# Altium schematic symbol library self_schlib.SchLib: 44 symbols
Pins are listed as number, name and electrical type; pins without a type are passive.

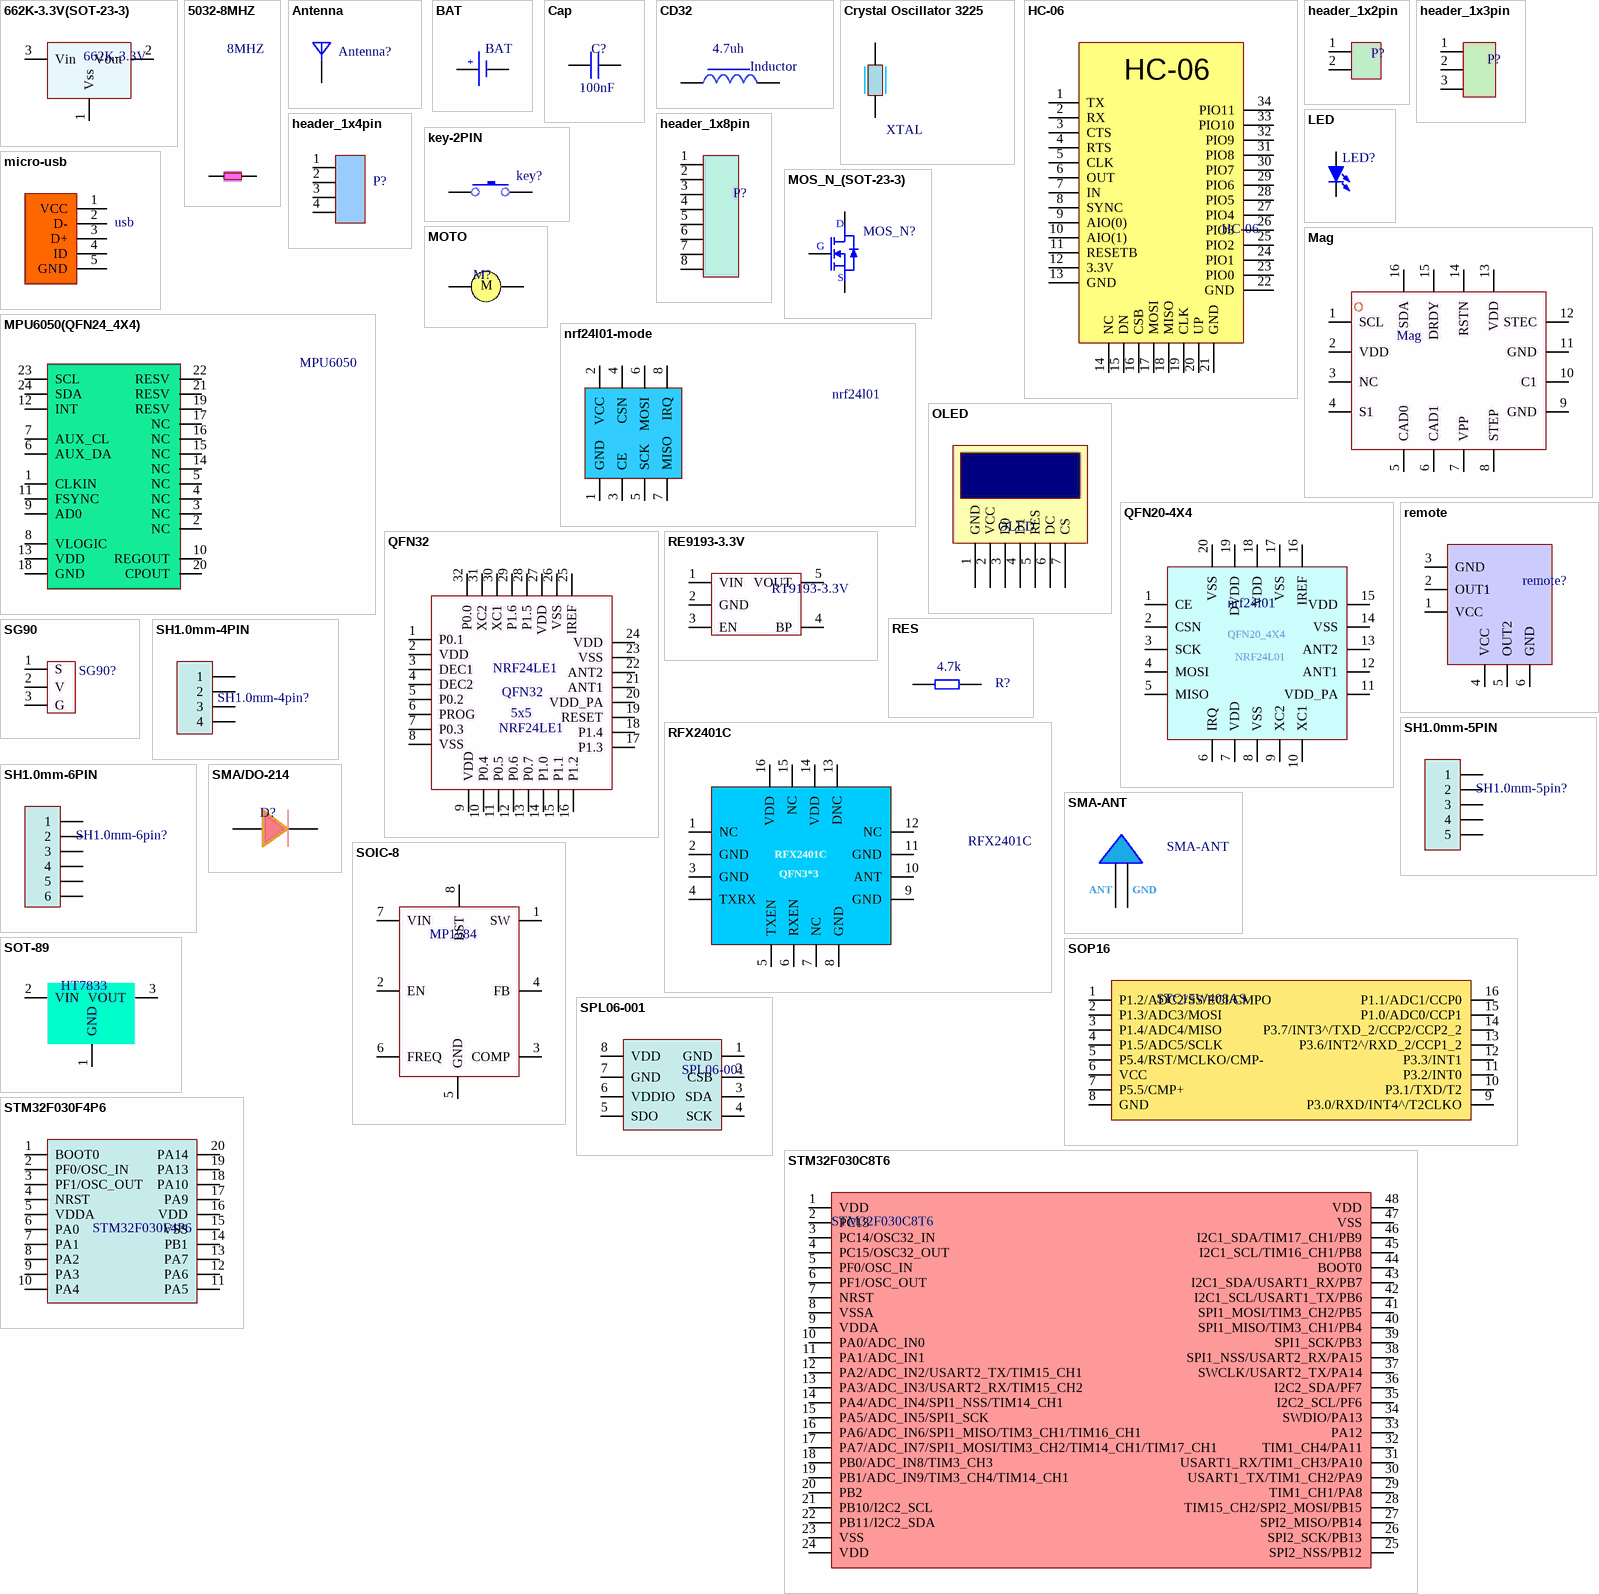
[diagram p0: symbols 662K-3.3V(SOT-23-3) to STM32F030F4P6]

## 662K-3.3V(SOT-23-3)
designator 662K-3.3V  (value not drawn)
footprint SOT-23-3
pins: 1 Vss, 2 Vout, 3 Vin

## 5032-8MHZ
designator 8MHZ  (value not drawn)
footprint 5032-8MHZ
pins: 1, 3

## Antenna
designator Antenna?  (value not drawn)
footprint Antenna
footprint ANT2
pins: 1

## BAT
designator BAT  (value not drawn)
footprint BAT
pins: 1 +, 2 -

## Cap
designator C?  (value not drawn)
footprint Cap
footprint CAP-0805
footprint CAP-3216
pins: 1, 2
text: 100nF

## CD32
designator Inductor  (value not drawn)
footprint CD32
pins: 1, 2
text: 4.7uh

## Crystal Oscillator 3225
designator XTAL  (value not drawn)
footprint Crystal Oscillator 3225
pins: 1, 3

## HC-06
designator HC-06  (value not drawn)
footprint HC-06
pins: 1 TX (power), 2 RX (power), 3 CTS (power), 4 RTS (power), 5 CLK (power), 6 OUT (hiz), 7 IN (hiz), 8 SYNC (hiz), 9 AIO(0) (hiz), 10 AIO(1) (hiz), 11 RESETB (hiz), 12 3.3V (hiz), 13 GND (hiz), 14 NC (hiz), 15 DN (hiz), 16 CSB (hiz), 17 MOSI (hiz), 18 MISO (hiz), 19 CLK (hiz), 20 UP (hiz), 21 GND (hiz), 22 GND (hiz), 23 PIO0 (hiz), 24 PIO1 (hiz), 25 PIO2 (hiz), 26 PIO3 (hiz), 27 PIO4 (hiz), 28 PIO5 (hiz), 29 PIO6 (hiz), 30 PIO7 (hiz), 31 PIO8 (hiz), 32 PIO9 (hiz), 33 PIO10 (hiz), 34 PIO11 (hiz)

## header_1x2pin
designator P?  (value not drawn)
footprint straight-1x2pin
footprint straight-1x2pin - duplicate
footprint winding_1x2pin
footprint straight-1x2pin - duplicate1
pins: 1, 2

## header_1x3pin
designator P?, comment header_1x2pin  (value not drawn)
footprint straight-1x3pin - duplicate
footprint straight-1x3pin - duplicate1
footprint winding_1x3pin
footprint straight-1x3pin
pins: 1, 2, 3

## header_1x4pin
designator P?  (value not drawn)
footprint straight-1x4pin
footprint straight-1x4pin - duplicate
pins: 1, 2, 3, 4

## header_1x8pin
designator P?, comment header_1x2pin  (value not drawn)
footprint straight-1x8pin
footprint straight-1x8pin - duplicate
footprint winding_1x8pin
pins: 1, 2, 3, 4, 5, 6, 7, 8

## key-2PIN
designator key?  (value not drawn)
footprint KEY-2PIN
pins: 1, 2

## LED
designator LED?  (value not drawn)
footprint LED-0603
pins: 1, 2

## Mag
designator Mag  (value not drawn)
footprint Mag (磁力计)
pins: 1 SCL, 2 VDD, 3 NC, 4 S1, 5 CAD0, 6 CAD1, 7 VPP, 8 STEP, 9 GND, 10 C1, 11 GND, 12 STEC, 13 VDD, 14 RSTN, 15 DRDY, 16 SDA

## micro-usb
designator usb  (value not drawn)
footprint USB-MICRO-1
pins: 1 VCC, 2 D-, 3 D+, 4 ID, 5 GND

## MOS_N_(SOT-23-3)
designator MOS_N?, comment MOS_N  (value not drawn)
footprint SOT-23-3
pins: 1 G, 2 S, 3 D

## MOTO
designator M?  (value not drawn)
footprint MOTO (直流电机)
pins: 1 (hiz), 2 (hiz)
text: M

## MPU6050(QFN24_4X4)
designator MPU6050, comment MPU6050  (value not drawn)
footprint QFN24_4X4
pins: 1 CLKIN, 2 NC, 3 NC, 4 NC, 5 NC, 6 AUX_DA, 7 AUX_CL, 8 VLOGIC, 9 AD0, 10 REGOUT, 11 FSYNC, 12 INT, 13 VDD, 14 NC, 15 NC, 16 NC, 17 NC, 18 GND, 19 RESV, 20 CPOUT, 21 RESV, 22 RESV, 23 SCL, 24 SDA

## nrf24l01-mode
designator nrf24l01  (value not drawn)
footprint NRF24L01-mode
pins: 1 GND, 2 VCC, 3 CE, 4 CSN, 5 SCK, 6 MOSI, 7 MISO, 8 IRQ

## OLED
designator OLED  (value not drawn)
footprint OLED-0.96-PIN7
pins: 1 GND (hiz), 2 VCC (hiz), 3 D0 (hiz), 4 D1 (hiz), 5 RES (hiz), 6 DC (hiz), 7 CS (hiz)

## QFN20-4X4
designator nrf24l01, comment nrf24l01  (value not drawn)
footprint QFN20_4X4
pins: 1 CE, 2 CSN, 3 SCK, 4 MOSI, 5 MISO, 6 IRQ, 7 VDD, 8 VSS, 9 XC2, 10 XC1, 11 VDD_PA, 12 ANT1, 13 ANT2, 14 VSS, 15 VDD, 16 IREF, 17 VSS, 18 VDD, 19 DVDD, 20 VSS
text: QFN20_4X4; NRF24L01

## QFN32
designator NRF24LE1, comment NRF24LE1  (value not drawn)
footprint QFN32_5X5
pins: 1 P0.1, 2 VDD, 3 DEC1, 4 DEC2, 5 P0.2, 6 PROG, 7 P0.3, 8 VSS, 9 VDD, 10 P0.4, 11 P0.5, 12 P0.6, 13 P0.7, 14 P1.0, 15 P1.1, 16 P1.2, 17 P1.3, 18 P1.4, 19 RESET, 20 VDD_PA, 21 ANT1, 22 ANT2, 23 VSS, 24 VDD, 25 IREF, 26 VSS, 27 VDD, 28 P1.5, 29 P1.6, 30 XC1, 31 XC2, 32 P0.0
text: 5x5

## RE9193-3.3V
designator RT9193-3.3V  (value not drawn)
footprint SOT-23-5
pins: 1 VIN, 2 GND, 3 EN, 4 BP, 5 VOUT

## remote
designator remote?  (value not drawn)
footprint remote
pins: 1 VCC, 2 OUT1, 3 GND, 4 VCC, 5 OUT2, 6 GND

## RES
designator R?, comment 4.7K
footprint RES-0603
pins: 1, 2
text: 4.7k

## RFX2401C
designator RFX2401C  (value not drawn)
footprint RFX2401C (QFN3*3)
pins: 1 NC, 2 GND, 3 GND, 4 TXRX, 5 TXEN, 6 RXEN, 7 NC, 8 GND, 9 GND, 10 ANT, 11 GND, 12 NC, 13 DNC, 14 VDD, 15 NC, 16 VDD
text: QFN3*3

## SG90
designator SG90?  (value not drawn)
footprint SG90
pins: 1 S, 2 V, 3 G

## SH1.0mm-4PIN
designator SH1.0mm-4pin?  (value not drawn)
footprint SH1.0mm-4PIN
pins: 1, 2, 3, 4

## SH1.0mm-5PIN
designator SH1.0mm-5pin?  (value not drawn)
footprint SH1.0MM-5PIN
pins: 1, 2, 3, 4, 5

## SH1.0mm-6PIN
designator SH1.0mm-6pin?  (value not drawn)
footprint SH1.0mm-6PIN
pins: 1, 2, 3, 4, 5, 6

## SMA-ANT
designator SMA-ANT  (value not drawn)
footprint SMA-ANT
pins: 0 GND, 1 ANT

## SMA/DO-214
designator D?  (value not drawn)
footprint SMA/DO-214
pins: 1, 2

## SOIC-8
designator MP1584  (value not drawn)
SOIC-8
footprint SOIC-8
pins: 1 SW, 2 EN, 3 COMP, 4 FB, 5 GND, 6 FREQ, 7 VIN, 8 BST

## SOP16
designator STC15W408AS, comment STC15W408AS  (value not drawn)
footprint SOP16
pins: 1 P1.2/ADC2/SS/ECI/CMPO, 2 P1.3/ADC3/MOSI, 3 P1.4/ADC4/MISO, 4 P1.5/ADC5/SCLK, 5 P5.4/RST/MCLKO/CMP-, 6 VCC, 7 P5.5/CMP+, 8 GND, 9 P3.0/RXD/INT4^/T2CLKO, 10 P3.1/TXD/T2, 11 P3.2/INT0, 12 P3.3/INT1, 13 P3.6/INT2^/RXD_2/CCP1_2, 14 P3.7/INT3^/TXD_2/CCP2/CCP2_2, 15 P1.0/ADC0/CCP1, 16 P1.1/ADC1/CCP0

## SOT-89
designator HT7833, comment HT7833  (value not drawn)
footprint SOT-89
pins: 1 GND, 2 VIN, 3 VOUT

## SPL06-001
designator SPL06-001  (value not drawn)
footprint SPL06-001 (气压计)
pins: 1 GND, 2 CSB, 3 SDA, 4 SCK, 5 SDO, 6 VDDIO, 7 GND, 8 VDD

## STM32F030C8T6
designator STM32F030C8T6  (value not drawn)
footprint STM32F030C8T6
pins: 1 VDD, 2 PC13, 3 PC14/OSC32_IN, 4 PC15/OSC32_OUT, 5 PF0/OSC_IN, 6 PF1/OSC_OUT, 7 NRST, 8 VSSA, 9 VDDA, 10 PA0/ADC_IN0, 11 PA1/ADC_IN1, 12 PA2/ADC_IN2/USART2_TX/TIM15_CH1, 13 PA3/ADC_IN3/USART2_RX/TIM15_CH2, 14 PA4/ADC_IN4/SPI1_NSS/TIM14_CH1, 15 PA5/ADC_IN5/SPI1_SCK, 16 PA6/ADC_IN6/SPI1_MISO/TIM3_CH1/TIM16_CH1, 17 PA7/ADC_IN7/SPI1_MOSI/TIM3_CH2/TIM14_CH1/TIM17_CH1, 18 PB0/ADC_IN8/TIM3_CH3, 19 PB1/ADC_IN9/TIM3_CH4/TIM14_CH1, 20 PB2, 21 PB10/I2C2_SCL, 22 PB11/I2C2_SDA, 23 VSS, 24 VDD, 25 SPI2_NSS/PB12, 26 SPI2_SCK/PB13, 27 SPI2_MISO/PB14, 28 TIM15_CH2/SPI2_MOSI/PB15, 29 TIM1_CH1/PA8, 30 USART1_TX/TIM1_CH2/PA9, 31 USART1_RX/TIM1_CH3/PA10, 32 TIM1_CH4/PA11, 33 PA12, 34 SWDIO/PA13, 35 I2C2_SCL/PF6, 36 I2C2_SDA/PF7, 37 SWCLK/USART2_TX/PA14, 38 SPI1_NSS/USART2_RX/PA15, 39 SPI1_SCK/PB3, 40 SPI1_MISO/TIM3_CH1/PB4, 41 SPI1_MOSI/TIM3_CH2/PB5, 42 I2C1_SCL/USART1_TX/PB6, 43 I2C1_SDA/USART1_RX/PB7, 44 BOOT0, 45 I2C1_SCL/TIM16_CH1/PB8, 46 I2C1_SDA/TIM17_CH1/PB9, 47 VSS, 48 VDD

## STM32F030F4P6
designator STM32F030F4P6  (value not drawn)
footprint STM32F030F4P6
pins: 1 BOOT0, 2 PF0/OSC_IN, 3 PF1/OSC_OUT, 4 NRST, 5 VDDA, 6 PA0, 7 PA1, 8 PA2, 9 PA3, 10 PA4, 11 PA5, 12 PA6, 13 PA7, 14 PB1, 15 VSS, 16 VDD, 17 PA9, 18 PA10, 19 PA13, 20 PA14

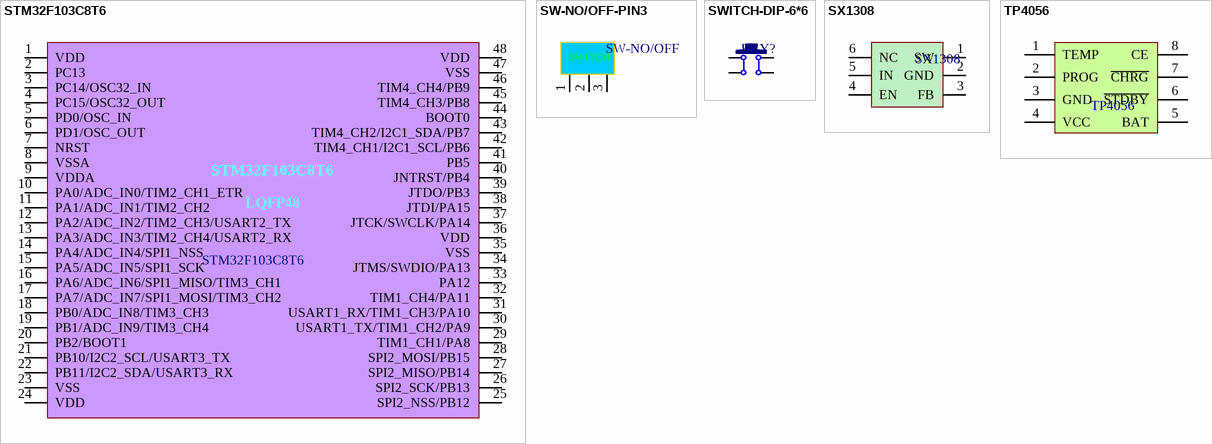
[diagram p1: symbols STM32F103C8T6 to TP4056]

## STM32F103C8T6
designator STM32F103C8T6  (value not drawn)
footprint STM32F103C8T6
pins: 1 VDD, 2 PC13, 3 PC14/OSC32_IN, 4 PC15/OSC32_OUT, 5 PD0/OSC_IN, 6 PD1/OSC_OUT, 7 NRST, 8 VSSA, 9 VDDA, 10 PA0/ADC_IN0/TIM2_CH1_ETR, 11 PA1/ADC_IN1/TIM2_CH2, 12 PA2/ADC_IN2/TIM2_CH3/USART2_TX, 13 PA3/ADC_IN3/TIM2_CH4/USART2_RX, 14 PA4/ADC_IN4/SPI1_NSS, 15 PA5/ADC_IN5/SPI1_SCK, 16 PA6/ADC_IN6/SPI1_MISO/TIM3_CH1, 17 PA7/ADC_IN7/SPI1_MOSI/TIM3_CH2, 18 PB0/ADC_IN8/TIM3_CH3, 19 PB1/ADC_IN9/TIM3_CH4, 20 PB2/BOOT1, 21 PB10/I2C2_SCL/USART3_TX, 22 PB11/I2C2_SDA/USART3_RX, 23 VSS, 24 VDD, 25 SPI2_NSS/PB12, 26 SPI2_SCK/PB13, 27 SPI2_MISO/PB14, 28 SPI2_MOSI/PB15, 29 TIM1_CH1/PA8, 30 USART1_TX/TIM1_CH2/PA9, 31 USART1_RX/TIM1_CH3/PA10, 32 TIM1_CH4/PA11, 33 PA12, 34 JTMS/SWDIO/PA13, 35 VSS, 36 VDD, 37 JTCK/SWCLK/PA14, 38 JTDI/PA15, 39 JTDO/PB3, 40 JNTRST/PB4, 41 PB5, 42 TIM4_CH1/I2C1_SCL/PB6, 43 TIM4_CH2/I2C1_SDA/PB7, 44 BOOT0, 45 TIM4_CH3/PB8, 46 TIM4_CH4/PB9, 47 VSS, 48 VDD
text: LQFP48

## SW-NO/OFF-PIN3
designator SW-NO/OFF, comment SW-NO/OFF  (value not drawn)
footprint SW-NO/OFF-PIN3
pins: 1, 2, 3
text: SWITCH

## SWITCH-DIP-6*6
designator KEY?  (value not drawn)
footprint SWITCH-DIP-6*6*7
pins: 1, 2, 3, 4

## SX1308
designator SX1308  (value not drawn)
footprint SX1308
pins: 1 SW, 2 GND, 3 FB, 4 EN, 5 IN, 6 NC

## TP4056
designator TP4056  (value not drawn)
footprint TP4056
pins: 1 TEMP, 2 PROG, 3 GND, 4 VCC, 5 BAT, 6 ~{STDBY}, 7 ~{CHRG}, 8 CE